# Altium footprint library SparkFun-Connectors.PCBLIB: 376 footprints (part 6 of 24)
Each footprint in its own frame and in the unit in brackets; x right, y up, seen from the top. Pads: shape width x height; smd on the part's side, far side on the other; paste and mask are expansions set on the pad; w line width, h text height; cw(c..) or ccw(c..) is an arc to the next point about the centre after c.
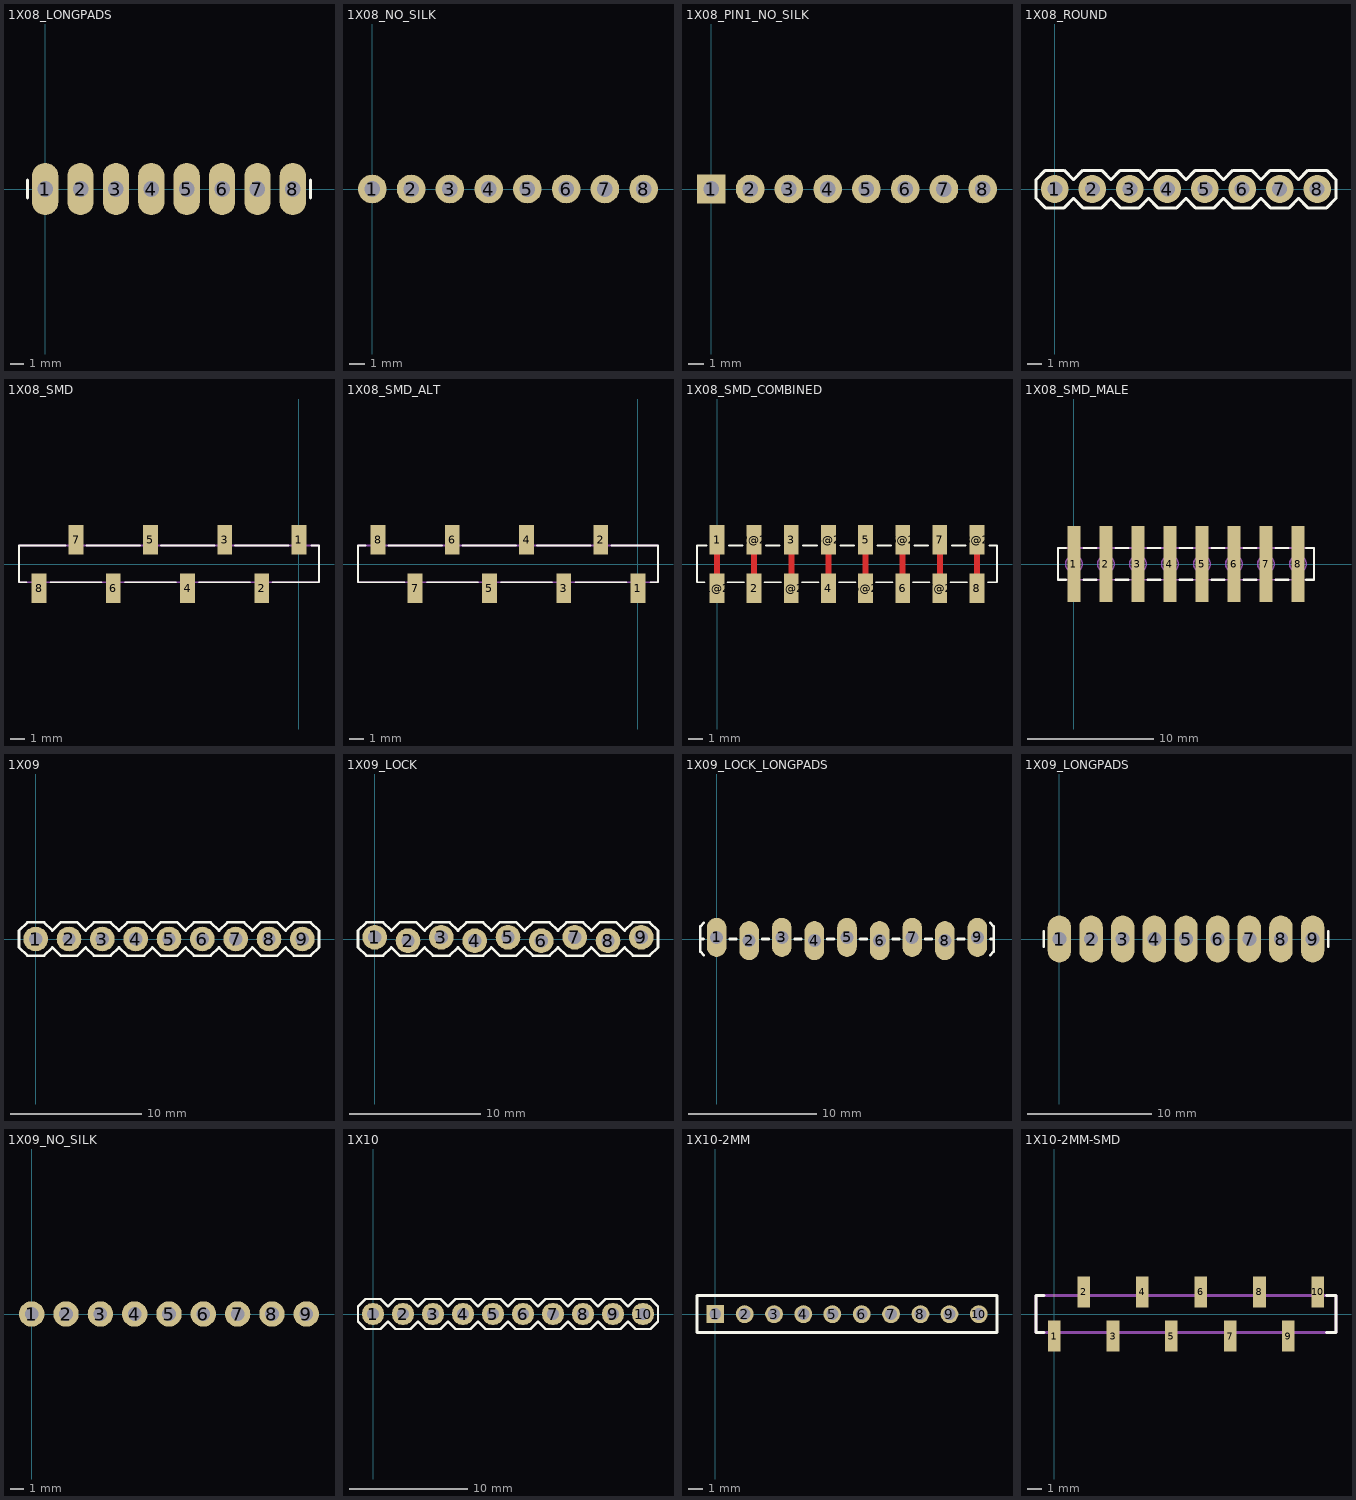
[diagram p5: the footprints below, top view; thin cyan lines are the x and y axes]

## 1X08_LONGPADS [mil]
pads (8):
  oval 74x148 hole 44: 1(0,0) 2(100,0) 3(200,0) 4(300,0) 5(400,0) 6(500,0) 7(600,0) 8(700,0)
Top Overlay:
  lines w8: -50,-25 -50,25 ; 750,-25 750,25
Mechanical 2:
  text ">NAME" at -53,97 h77.5
Mechanical 4:
  text ">VALUE" at -50,-150 h77.5
Mechanical 16:
  rectangle: 590,-10 610,10
  rectangle: 490,-10 510,10
  rectangle: 390,-10 410,10
  rectangle: 290,-10 310,10
  rectangle: 190,-10 210,10
  rectangle: 90,-10 110,10
  rectangle: -10,-10 10,10
  rectangle: 690,-10 710,10

## 1X08_NO_SILK [mil]
pads (8):
  round 74 hole 40: 1(0,0) 2(100,0) 3(200,0) 4(300,0) 5(400,0) 6(500,0) 7(600,0) 8(700,0)
Mechanical 2:
  text ">NAME" at -53,72 h77.5
Mechanical 4:
  text ">VALUE" at -50,-125 h77.5
Mechanical 16:
  rectangle: 590,-10 610,10
  rectangle: 490,-10 510,10
  rectangle: 390,-10 410,10
  rectangle: 290,-10 310,10
  rectangle: 190,-10 210,10
  rectangle: 90,-10 110,10
  rectangle: -10,-10 10,10
  rectangle: 690,-10 710,10

## 1X08_PIN1_NO_SILK [mil]
pads (8):
  rect 74x74 hole 40: 1(0,0)
  round 74 hole 40: 2(100,0) 3(200,0) 4(300,0) 5(400,0) 6(500,0) 7(600,0) 8(700,0)
Mechanical 2:
  text ">NAME" at -53,72 h77.5
Mechanical 4:
  text ">VALUE" at -50,-125 h77.5
Mechanical 16:
  rectangle: 590,-10 610,10
  rectangle: 490,-10 510,10
  rectangle: 390,-10 410,10
  rectangle: 290,-10 310,10
  rectangle: 190,-10 210,10
  rectangle: 90,-10 110,10
  rectangle: -10,-10 10,10
  rectangle: 690,-10 710,10

## 1X08_ROUND [mil]
pads (8):
  round 74 hole 40: 1(0,0) 2(100,0) 3(200,0) 4(300,0) 5(400,0) 6(500,0) 7(600,0) 8(700,0)
Top Overlay:
  lines w8: -50,-25 -50,25 -25,50 25,50 50,25 75,50 125,50 150,25 175,50 225,50 250,25 275,50 325,50 350,25 375,50 425,50 450,25 475,50 525,50 550,25 575,50 625,50 650,25 675,50 725,50 750,25 750,-25 725,-50 675,-50 650,-25 625,-50 575,-50 550,-25 525,-50 475,-50 450,-25 425,-50 375,-50 350,-25 325,-50 275,-50 250,-25 225,-50 175,-50 150,-25 125,-50 75,-50 50,-25 25,-50 -25,-50 -50,-25
Mechanical 2:
  text ">NAME" at -53,72 h77.5
Mechanical 4:
  text ">VALUE" at -50,-125 h77.5
Mechanical 16:
  rectangle: 590,-10 610,10
  rectangle: 490,-10 510,10
  rectangle: 390,-10 410,10
  rectangle: 290,-10 310,10
  rectangle: 190,-10 210,10
  rectangle: 90,-10 110,10
  rectangle: -10,-10 10,10
  rectangle: 690,-10 710,10

## 1X08_SMD [mil]
pads (8):
  rect 40x79 smd: 1(0,65) 2(-100,-64.96) 3(-200,65) 4(-300,-64.96) 5(-400,65) 6(-500,-64.96) 7(-600,65) 8(-700,-64.96)
Top Overlay:
  lines w5: -733.46,-49.21 -753.94,-49.21 -753.94,50 -628.46,50 ; -668.94,-49.21 -531.06,-49.21 ; -572.32,50 -427.68,50 ; -468.94,-49.21 -331.06,-49.21 ; -372.32,50 -227.68,50 ; -268.94,-49.21 -131.06,-49.21 ; -172.32,50 -27.68,50 ; -71.54,-49.21 54,-49.21 54,50 34,50
Mechanical 2:
  text ">NAME" at -750,115 h77.5
Mechanical 4:
  text ">VALUE" at -750,-165 h77.5
Mechanical 16:
  lines w5: -753.94,-49.21 -753.94,50 54,50 54,-49.21 -753.94,-49.21

## 1X08_SMD_ALT [mil]
pads (8):
  rect 40x79 smd: 1(0,-64.96) 2(-100,65) 3(-200,-64.96) 4(-300,65) 5(-400,-64.96) 6(-500,65) 7(-600,-64.96) 8(-700,65)
Top Overlay:
  lines w5: -733.46,50 -753.94,50 -753.94,-49.21 -628.46,-49.21 ; -672.32,50 -527.68,50 ; -568.94,-49.21 -431.06,-49.21 ; -472.32,50 -327.68,50 ; -368.94,-49.21 -231.06,-49.21 ; -272.32,50 -127.68,50 ; -168.94,-49.21 -31.06,-49.21 ; -71.54,50 54,50 54,-49.21 34,-49.21
Mechanical 2:
  text ">NAME" at -750,115 h77.5
Mechanical 4:
  text ">VALUE" at -750,-165 h77.5
Mechanical 16:
  lines w5: -753.94,-49.21 -753.94,50 54,50 54,-49.21 -753.94,-49.21

## 1X08_SMD_COMBINED [mil]
pads (16):
  rect 40x79 smd: 1(0,65) 1@2(0,-64.96) 2(100,-64.96) 2@2(100,65) 3(200,65) 3@2(200,-64.96) 4(300,-64.96) 4@2(300,65) 5(400,65) 5@2(400,-64.96) 6(500,-64.96) 6@2(500,65) 7(600,65) 7@2(600,-64.96) 8(700,-64.96) 8@2(700,65)
Top Layer:
  lines w16: 0,-50 0,50 ; 100,-50 100,50 ; 200,-50 200,50 ; 300,-50 300,50 ; 400,-50 400,50 ; 500,-50 500,50 ; 600,-50 600,50 ; 700,-50 700,50
Top Overlay:
  lines w5: -33.46,-49.21 -53.94,-49.21 -53.94,50 -28.46,50 ; 28,-49.21 73,-49.21 ; 32,50 69,50 ; 128,-49.21 173,-49.21 ; 132,50 169,50 ; 228,-49.21 273,-49.21 ; 232,50 269,50 ; 328,-49.21 373,-49.21 ; 332,50 369,50 ; 428,-49.21 473,-49.21 ; 432,50 469,50 ; 528,-49.21 573,-49.21 ; 532,50 569,50 ; 628,-49.21 673,-49.21 ; 632,50 669,50 ; 729,-49.21 754,-49.21 754,50 734,50
Mechanical 2:
  text ">NAME" at 0,115 h77.5
Mechanical 4:
  text ">VALUE" at 0,-165 h77.5

## 1X08_SMD_MALE [mil]
pads (8):
  rect 41x237 smd: 1(0,0) 2(100,0) 3(200,0) 4(300,0) 5(400,0) 6(500,0) 7(600,0) 8(700,0)
Top Overlay:
  lines w7: -25,-49.21 -50,-49.21 -50,50 -25,50 ; 30,-49.21 70,-49.21 ; 30,50 70,50 ; 130,-49.21 170,-49.21 ; 130,50 170,50 ; 230,-49.21 270,-49.21 ; 230,50 270,50 ; 330,-49.21 370,-49.21 ; 330,50 370,50 ; 430,-49.21 470,-49.21 ; 430,50 470,50 ; 530,-49.21 570,-49.21 ; 530,50 570,50 ; 630,-49.21 670,-49.21 ; 630,50 670,50 ; 725,-49.21 750,-49.21 750,50 725,50
Mechanical 2:
  text ">NAME" at -39.37,131 h77.5
Mechanical 4:
  text ">VALUE" at -39.37,-180.75 h77.5
Mechanical 16:
  circle w5: c0,0 r26
  circle w5: c100,0 r26
  circle w5: c200,0 r26
  circle w5: c300,0 r26
  circle w5: c400,0 r26
  circle w5: c500,0 r26
  circle w5: c600,0 r26
  circle w5: c700,0 r26
  rectangle: -12.6,0 13,109
  rectangle: 188,0 213,109
  rectangle: 388,0 413,109
  region: 113,0 88,0 88,-108.27 113,-108.27
  region: 313,0 288,0 288,-108.27 313,-108.27
  region: 513,0 488,0 488,-108.27 513,-108.27
  rectangle: 588,0 613,109
  region: 713,0 688,0 688,-108.27 713,-108.27
  lines w5: -50,-49.21 -50,50 750,50 750,-49.21 -50,-49.21

## 1X09 [mil]
pads (9):
  round 74 hole 40: 1(0,0) 2(100,0) 3(200,0) 4(300,0) 5(400,0) 6(500,0) 7(600,0) 8(700,0) 9(800,0)
Top Overlay:
  lines w8: -50,-25 -50,25 -25,50 25,50 50,25 75,50 125,50 150,25 175,50 225,50 250,25 275,50 325,50 350,25 375,50 425,50 450,25 475,50 525,50 550,25 575,50 625,50 650,25 675,50 725,50 750,25 775,50 825,50 850,25 850,-25 825,-50 775,-50 750,-25 725,-50 675,-50 650,-25 625,-50 575,-50 550,-25 525,-50 475,-50 450,-25 425,-50 375,-50 350,-25 325,-50 275,-50 250,-25 225,-50 175,-50 150,-25 125,-50 75,-50 50,-25 25,-50 -25,-50 -50,-25
Mechanical 2:
  text ">NAME" at -53,72 h77.5
Mechanical 4:
  text ">VALUE" at -50,-125 h77.5
Mechanical 16:
  rectangle: 590,-10 610,10
  rectangle: 490,-10 510,10
  rectangle: 390,-10 410,10
  rectangle: 290,-10 310,10
  rectangle: 190,-10 210,10
  rectangle: 90,-10 110,10
  rectangle: -10,-10 10,10
  rectangle: 690,-10 710,10
  rectangle: 790,-10 810,10

## 1X09_LOCK [mil]
pads (9):
  round 74 hole 40: 1(0,5) 2(100,-5) 3(200,5) 4(300,-5) 5(400,5) 6(500,-5) 7(600,5) 8(700,-5) 9(800,5)
Top Overlay:
  lines w8: -50,-25 -50,25 -25,50 25,50 50,25 75,50 125,50 150,25 175,50 225,50 250,25 275,50 325,50 350,25 375,50 425,50 450,25 475,50 525,50 550,25 575,50 625,50 650,25 675,50 725,50 750,25 775,50 825,50 850,25 850,-25 825,-50 775,-50 750,-25 725,-50 675,-50 650,-25 625,-50 575,-50 550,-25 525,-50 475,-50 450,-25 425,-50 375,-50 350,-25 325,-50 275,-50 250,-25 225,-50 175,-50 150,-25 125,-50 75,-50 50,-25 25,-50 -25,-50 -50,-25
Mechanical 2:
  text ">NAME" at -53,72 h77.5
Mechanical 4:
  text ">VALUE" at -50,-125 h77.5
Mechanical 16:
  rectangle: 590,-10 610,10
  rectangle: 490,-10 510,10
  rectangle: 390,-10 410,10
  rectangle: 290,-10 310,10
  rectangle: 190,-10 210,10
  rectangle: 90,-10 110,10
  rectangle: -10,-10 10,10
  rectangle: 690,-10 710,10
  rectangle: 790,-10 810,10

## 1X09_LOCK_LONGPADS [mil]
pads (9):
  oval 60x120 hole 40: 1(0,5) 2(100,-5) 3(200,5) 4(300,-5) 5(400,5) 6(500,-5) 7(600,5) 8(700,-5) 9(800,5)
Top Overlay:
  lines w8: -40,0 -50,0 ; -39,-50 -50,-39 -50,0 ; -39,50 -50,39 -50,0 ; 40,0 60,0 ; 140,0 160,0 ; 240,0 260,0 ; 340,0 360,0 ; 440,0 460,0 ; 540,0 560,0 ; 640,0 660,0 ; 740,0 760,0 ; 839,-50 850,-39 850,0 ; 839,50 850,39 850,0 ; 840,0 850,0
Mechanical 2:
  text ">NAME" at -50,75 h42.5
Mechanical 4:
  text ">VALUE" at -50,-125 h42.5
Mechanical 16:
  rectangle: -11.5,-11.5 12,12
  rectangle: 89,-11.5 112,12
  rectangle: 189,-11.5 212,12
  region: 312.25,-11.25 312.25,11.75 288.75,11.75 288.75,-11.25
  rectangle: 389,-11.5 412,12
  rectangle: 489,-11.5 512,12
  rectangle: 589,-11.5 612,12
  rectangle: 689,-11.5 712,12
  rectangle: 789,-11.5 812,12

## 1X09_LONGPADS [mil]
pads (9):
  oval 74x148 hole 44: 1(0,0) 2(100,0) 3(200,0) 4(300,0) 5(400,0) 6(500,0) 7(600,0) 8(700,0) 9(800,0)
Top Overlay:
  lines w8: -50,-25 -50,25 ; 850,-25 850,25
Mechanical 2:
  text ">NAME" at -53,97 h77.5
Mechanical 4:
  text ">VALUE" at -50,-150 h77.5
Mechanical 16:
  rectangle: 590,-10 610,10
  rectangle: 490,-10 510,10
  rectangle: 390,-10 410,10
  rectangle: 290,-10 310,10
  rectangle: 190,-10 210,10
  rectangle: 90,-10 110,10
  rectangle: -10,-10 10,10
  rectangle: 690,-10 710,10
  rectangle: 790,-10 810,10

## 1X09_NO_SILK [mil]
pads (9):
  round 74 hole 40: 1(0,0) 2(100,0) 3(200,0) 4(300,0) 5(400,0) 6(500,0) 7(600,0) 8(700,0) 9(800,0)
Mechanical 2:
  text ">NAME" at -53,72 h77.5
Mechanical 4:
  text ">VALUE" at -50,-125 h77.5
Mechanical 16:
  rectangle: 590,-10 610,10
  rectangle: 490,-10 510,10
  rectangle: 390,-10 410,10
  rectangle: 290,-10 310,10
  rectangle: 190,-10 210,10
  rectangle: 90,-10 110,10
  rectangle: -10,-10 10,10
  rectangle: 690,-10 710,10
  rectangle: 790,-10 810,10

## 1X10 [mil]
pads (10):
  round 74 hole 40: 1(0,0) 2(100,0) 3(200,0) 4(300,0) 5(400,0) 6(500,0) 7(600,0) 8(700,0) 9(800,0) 10(900,0)
Top Overlay:
  lines w8: -50,-25 -50,25 -25,50 25,50 50,25 75,50 125,50 150,25 175,50 225,50 250,25 275,50 325,50 350,25 375,50 425,50 450,25 475,50 525,50 550,25 575,50 625,50 650,25 675,50 725,50 750,25 775,50 825,50 850,25 875,50 925,50 950,25 950,-25 925,-50 875,-50 850,-25 825,-50 775,-50 750,-25 725,-50 675,-50 650,-25 625,-50 575,-50 550,-25 525,-50 475,-50 450,-25 425,-50 375,-50 350,-25 325,-50 275,-50 250,-25 225,-50 175,-50 150,-25 125,-50 75,-50 50,-25 25,-50 -25,-50 -50,-25
Mechanical 2:
  text ">NAME" at -53,72 h77.5
Mechanical 4:
  text ">VALUE" at -50,-125 h77.5
Mechanical 16:
  rectangle: 590,-10 610,10
  rectangle: 490,-10 510,10
  rectangle: 390,-10 410,10
  rectangle: 290,-10 310,10
  rectangle: 190,-10 210,10
  rectangle: 90,-10 110,10
  rectangle: -10,-10 10,10
  rectangle: 690,-10 710,10
  rectangle: 790,-10 810,10
  rectangle: 890,-10 910,10

## 1X10-2MM [mil]
pads (10):
  rect 48x48 hole 32: 1(0,0)
  round 48 hole 32: 2(79,0) 3(158,0) 4(237,0) 5(315,0) 6(394,0) 7(473,0) 8(552,0) 9(630,0) 10(709,0)
Top Overlay:
  lines w8: -49.21,-49.21 758,-49.21 758,50 -49.21,50 -49.21,-49.21
Mechanical 2:
  text ">NAME" at -53,72 h77.5
Mechanical 4:
  text ">VALUE" at -50,-125 h77.5
Mechanical 16:
  rectangle: 148,-10 168,10
  rectangle: 69,-10 89,10
  rectangle: -10,-10 10,10
  rectangle: 227,-10 247,10
  rectangle: 305,-10 325,10
  rectangle: 384,-10 404,10
  rectangle: 463,-10 483,10
  rectangle: 542,-10 562,10
  rectangle: 620,-10 640,10
  rectangle: 699,-10 719,10

## 1X10-2MM-SMD [mil]
pads (10):
  rect 34x83 smd: 1(0,-59.06) 2(79,60) 3(158,-59.06) 4(237,60) 5(315,-59.06) 6(394,60) 7(473,-59.06) 8(552,60) 9(630,-59.06) 10(709,60)
Top Overlay:
  lines w8: -27.56,-49.21 -49.21,-49.21 -49.21,50 -27.56,50 ; 733,-49.21 758,-49.21 758,50 733,50
Mechanical 2:
  text ">NAME" at 45,60 h24.8
Mechanical 4:
  text ">VALUE" at 195,60 h24.8
Mechanical 16:
  lines w8: -49.21,-49.21 758,-49.21 758,50 -49.21,50 -49.21,-49.21